# Altium schematic symbol library MAX17626.SchLib: 1 symbol
Pins are listed as number, name and electrical type; pins without a type are passive.

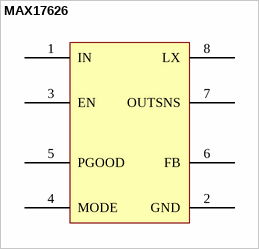
[diagram p0: symbol MAX17626]

## MAX17626
designator ?
pins: 1 IN (power), 2 GND, 3 EN, 4 MODE, 5 PGOOD, 6 FB, 7 OUTSNS, 8 LX